# EAGLE library part 3310H-001-105L (library P1001-001-310 - Eagle Library)
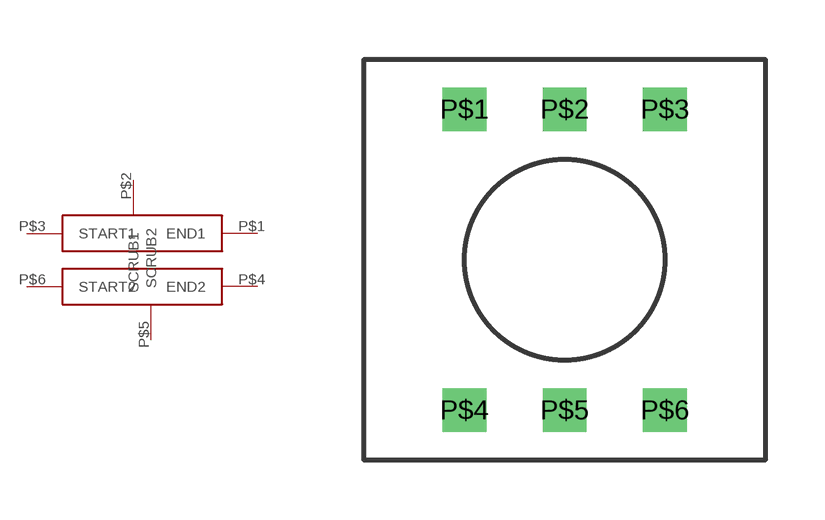
[diagram p5: symbol with the pads of 3310H-001-105L; footprint 3310H-001-105L]

Designator prefix -

## 3310H-001-105L  [3310H-001-105L]
P$1  END1
P$2  SCRUB1
P$3  START1
P$4  END2
P$5  SCRUB2
P$6  START2

## Footprint 3310H-001-105L (pad centres in mm)
drill 0.6 square: P$1 -2.54,3.81; P$2 0,3.81; P$3 2.54,3.81; P$4 -2.54,-3.81; P$5 0,-3.81; P$6 2.54,-3.81